# Altium footprint library TO.PcbLib: 2 footprints
Each footprint in its own frame and in the unit in brackets; x right, y up, seen from the top. Pads: shape width x height; smd on the part's side, far side on the other; paste and mask are expansions set on the pad; w line width, h text height; cw(c..) or ccw(c..) is an arc to the next point about the centre after c.
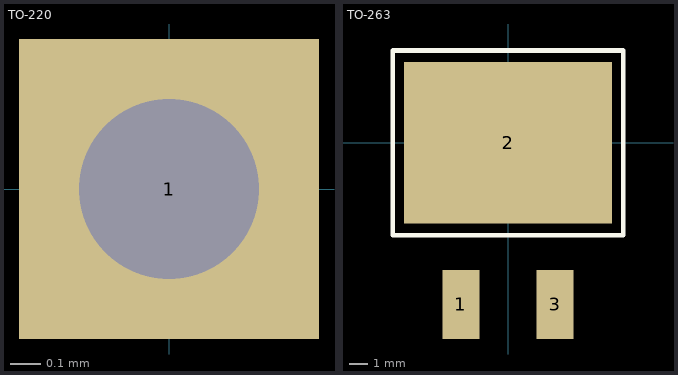
[diagram p0: the footprints below, top view; thin cyan lines are the x and y axes]

## TO-220 [mm]
pads (1):
  rect 1x1 hole 0.6: 1(0,0)

## TO-263 [mil]
pads (3):
  rect 80x150 smd: 1(-102,-350) 3(102,-350)
  rect 450x350 smd: 2(0,0)
Top Overlay:
  lines w10: -250,-200 250,-200 250,200 -250,200 -250,-200